# Altium footprint library piRack1.PcbLib: 22 footprints (part 1 of 2)
Each footprint in its own frame and in the unit in brackets; x right, y up, seen from the top. Pads: shape width x height; smd on the part's side, far side on the other; paste and mask are expansions set on the pad; w line width, h text height; cw(c..) or ccw(c..) is an arc to the next point about the centre after c.
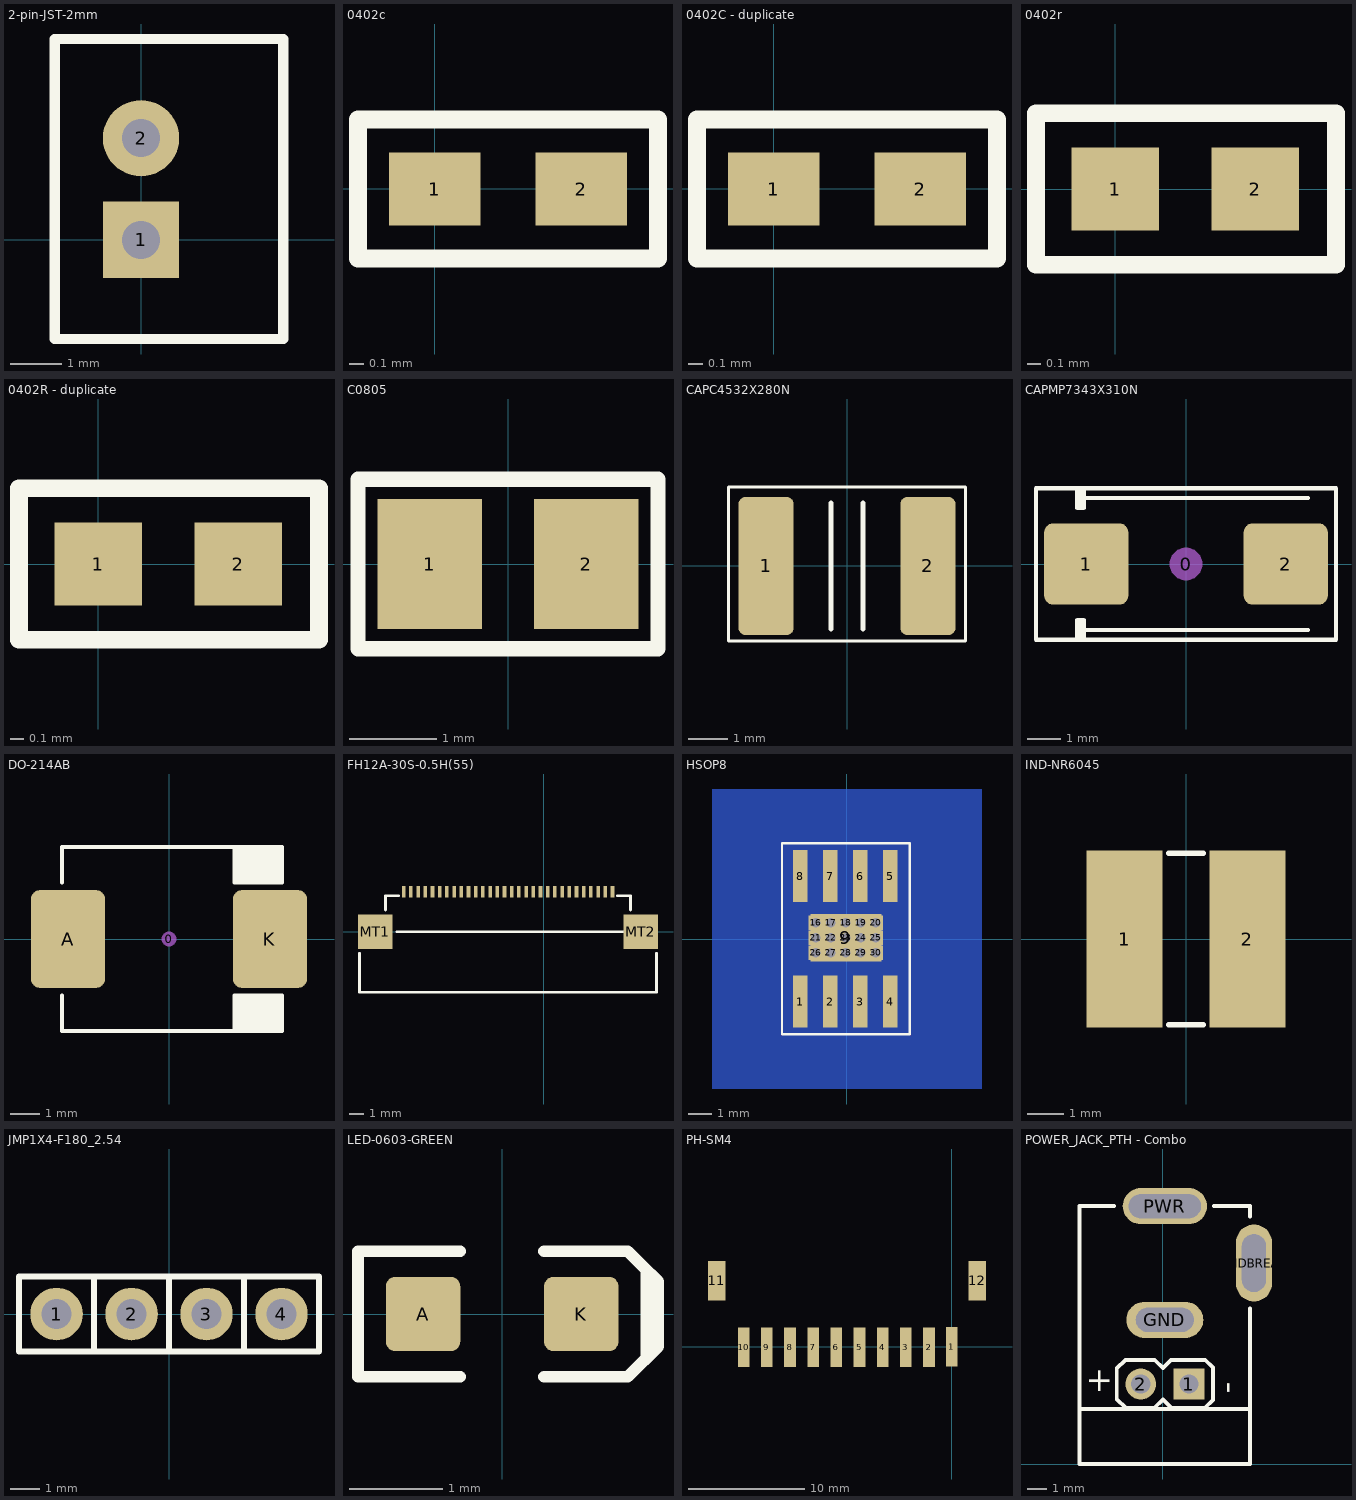
[diagram p0: the footprints below, top view; thin cyan lines are the x and y axes]

## 2-pin-JST-2mm [mm]
height 1.1
pads (2):
  rect 1.5x1.5 hole 0.75: 1(0,0)
  round 1.5 hole 0.75: 2(0,2)
Top Overlay:
  lines w0.203: -1.7,-1.95 2.8,-1.95 2.8,3.95 -1.7,3.95 -1.7,-1.95
3D body: height 6, standoff -3.4, extent -1.7,-1.95 2.8,3.95

## 0402c [mil]
pads (2):
  rect 25x20 smd: 1(0,0) 2(40,0)
Top Overlay:
  lines w5: -21,-19 -21,19 61,19 61,-19 -21,-19
3D body: height 13.98, standoff 0, extent -0.98,-10.43 38.39,10.43

## 0402C - duplicate [mil]
pads (2):
  rect 25x20 smd: 1(0,0) 2(40,0)
Top Overlay:
  lines w5: -21,-19 61,-19 61,19 -21,19 -21,-19
3D body: height 13.98, standoff 0, extent -0.98,-10.43 38.39,10.43

## 0402r [mm]
height 1.1
pads (2):
  rect 0.635x0.6 smd: 1(0,0) 2(1.016,0)
Top Overlay:
  lines w0.127: -0.575,-0.55 1.6,-0.55 1.6,0.55 -0.575,0.55 -0.575,-0.55
3D body: height 0.34, standoff 0, extent -0.02,-0.3 1.02,0.3

## 0402R - duplicate [mm]
pads (2):
  rect 0.635x0.6 smd: 1(0,0) 2(1.016,0)
Top Overlay:
  lines w0.127: -0.575,-0.55 1.6,-0.55 1.6,0.55 -0.575,0.55 -0.575,-0.55
3D body: height 0.34, standoff 0, extent -0.02,-0.3 1.02,0.3

## C0805 [mm]
pads (2):
  rect 1.2x1.5 smd: 1(-0.9,0) 2(0.9,0)
Top Overlay:
  lines w0.178: -1.725,-0.975 1.725,-0.975 1.725,0.975 -1.725,0.975 -1.725,-0.975
3D body: height 1.25, standoff 0, extent 0.7,-0.625 1.05,0.625
3D body: height 1.25, standoff 0, extent -1.05,-0.625 -0.7,0.625
3D body: height 1.25, standoff 0, extent -0.7,-0.625 0.7,0.625

## CAPC4532X280N [mm] "Chip Capacitor, Body 4.5x3.2mm, 1812, IPC Medium Density"
height 2.8
pads (2):
  rrect25% 1.4x3.5 smd: 1(-2.05,0) 2(2.05,0)
Top Overlay:
  lines w0.076: -3,-1.9 -3,2 3,2 3,-1.9 -3,-1.9
  lines w0.127: -0.4,-1.6 -0.4,1.6 ; 0.4,-1.6 0.4,1.6
3D body: height 2.79, standoff -0.01, extent -2.45,-1.8 2.45,1.8

## CAPMP7343X310N [mm] "Molded body capacitor, Body 7.3x4.3mm, 2917, IPC Nominal settings"
height 3.1
pads (3):
  round 1 on Mech15: 0(0,0)
  rrect20% 2.55x2.45 smd: 1(-3.025,0) 2(3.025,0)
Top Overlay:
  lines w0.127: -3.3,-2 3.7,-2 ; -3.3,2 3.7,2 ; -3.2,-2.3 -3.2,-2 -3.2,-1.7 ; -3.2,1.7 -3.2,2 -3.2,2.3 ; -4.55,-2.3 -4.55,2.3 4.55,2.3 4.55,-2.3 -4.55,-2.3 ; -3.3,-2.3 -3.3,-1.7 -3.1,-1.7 -3.1,-2 -3.1,-2.3 -3.3,-2.3 ; -3.3,1.7 -3.3,2.3 -3.1,2.3 -3.1,2 -3.1,1.7 -3.3,1.7
3D body: height 3.1, standoff 0, extent -3.8,-1.975 3.8,1.975

## DO-214AB [mm] "JEDEC DO214 variation AB. SMC"
height 2.5
pads (3):
  round 0.508 on Mech15: 0(0,0)
  rrect25% 2.5x3.3 smd: A(-3.4,0) K(3.4,0)
Top Overlay:
  rectangle: 2.2,1.9 3.8,3.1
  rectangle: 2.2,-3.1 3.8,-1.9
  lines w0.127: -3.6,-1.9 -3.6,-3.1 3.8,-3.1 3.8,-1.9 2.2,-1.9 2.2,-3.1 ; -3.6,1.9 -3.6,3.1 3.8,3.1 3.8,1.9 2.2,1.9 2.2,3.1
3D body: height 2.62, standoff 0.01, extent -3.975,-2.975 4.05,2.975

## FH12A-30S-0.5H(55) [mm]
pads (32):
  rect 0.25x0.8 smd: 1(4.772,2.787) 2(4.272,2.787) 3(3.772,2.787) 4(3.272,2.787) 5(2.772,2.787) 6(2.272,2.787) 7(1.772,2.787) 8(1.272,2.787) 9(0.772,2.787) 10(0.272,2.787) 11(-0.228,2.787) 12(-0.728,2.787) 13(-1.228,2.787) 14(-1.728,2.787) 15(-2.228,2.787) 16(-2.728,2.787) 17(-3.228,2.787) 18(-3.728,2.787) 19(-4.228,2.787) 20(-4.728,2.787) 21(-5.228,2.787) 22(-5.728,2.787) 23(-6.228,2.787) 24(-6.728,2.787) 25(-7.228,2.787) 26(-7.728,2.787) 27(-8.228,2.787) 28(-8.728,2.787) 29(-9.228,2.787) 30(-9.728,2.787)
  rect 2.4x2.4 smd: MT1(-11.7,0) MT2(6.731,0)
Top Overlay:
  lines w0.2: -12.8,-1.5 -12.8,-4.2 7.798,-4.2 ; -11,1.5 -11,2.5 -10.1,2.5 ; -10.2,0 5.791,0 ; 5.131,2.5 6.031,2.5 6.031,1.5 ; 7.831,-4.2 7.831,-1.5
3D body: height 2.05, standoff -0.1, extent -12.239,-4.104 7.261,2.896

## HSOP8 [mil]
pads (24):
  rect 24x87 smd: 1(-77.87,-104.33) 2(-27.87,-104.33) 3(22.13,-104.33) 4(72.13,-104.33) 5(72.13,104.97) 6(22.13,104.97) 7(-27.87,104.97) 8(-77.87,104.97)
  rect 118.11x78.74 smd: 9(-1.97,1.97)
  rect 24x24 hole 16: 16(-52.07,27.06) 17(-27.07,27.06) 18(-2.07,27.06) 19(22.93,27.06) 20(47.93,27.06) 21(-52.07,2.06) 22(-27.07,2.06) 23(-2.07,2.06) 24(22.93,2.06) 25(47.93,2.06) 26(-52.07,-22.94) 27(-27.07,-22.94) 28(-2.07,-22.94) 29(22.93,-22.94) 30(47.93,-22.94)
Bottom Layer:
  rectangle: -225,-249.99 225,250.01
Top Overlay:
  lines w3.94: -108.27,-158.46 -108.27,159.45 104.33,159.45 104.33,-158.46 -108.27,-158.46
3D body: height 68.9, standoff 0, extent -100.39,-120.08 96.46,124.02

## IND-NR6045 [mm] "SMT power inductor 5 x 5mm"
height 2
pads (2):
  rect 2.1x4.9 smd: 1(-1.7,0) 2(1.7,0)
Top Overlay:
  lines w0.152: -0.475,-2.375 0.475,-2.375 ; -0.475,2.375 0.475,2.375
3D body: height 2, standoff 0, extent -2.5,-2.5 2.5,2.5
3D body: height 0.25, standoff 0, extent 1.8,-1.575 2.65,1.575
3D body: height 0.25, standoff 0, extent -2.65,-1.575 -1.775,1.575

## JMP1X4-F180_2.54 [mil]
height 169.29
pads (4):
  round 70 hole 40: 1(-150,0) 2(-50,0) 3(50,0) 4(150,0)
Top Overlay:
  lines w8: -100,-50 -100,50 ; 0,-50 0,50 ; 100,-50 100,50 ; -200,-50 -200,50 200,50 200,-50 -200,-50
3D body: height 169.29, standoff 0, extent -204,-54 204,54

## LED-0603-GREEN [mm]
height 0.8
pads (2):
  rrect25% 0.8x0.8 smd: A(-0.85,0) K(0.85,0)
Top Overlay:
  lines w0.076: -1.55,-0.675 -1.55,0.675
  lines w0.127: -0.45,-0.675 -1.55,-0.675 -1.55,0.675 -0.45,0.675 ; 0.45,-0.675 1.35,-0.675 1.55,-0.475 1.55,0.475 1.35,0.675 0.45,0.675 ; 1.5,0.525 1.675,0.35 1.675,-0.35 1.525,-0.5

## PH-SM4 [mm]
height 1.1
pads (12):
  rect 1x3.4 smd: 1(0,0) 2(-1.97,-0.016) 3(-3.97,-0.016) 4(-5.97,-0.016) 5(-7.97,-0.016) 6(-9.97,-0.016) 7(-11.97,-0.016) 8(-13.97,-0.016) 9(-15.97,-0.016) 10(-17.97,-0.016)
  rect 1.5x3.4 smd: 11(-20.3,5.7) 12(2.2,5.7)
3D body: height 5.6, standoff 0, extent -21,-1.2 2.9,7.4

## POWER_JACK_PTH - Combo [mil] "Power jack and Connector Combined"
height 590.55
pads (5):
  rect 64x64 hole 40: 1(54,167)
  round 64 hole 40: 2(-46,167)
  oval 160x75 hole 50 slot 120 at 0 deg: GND(4,300.15)
  oval 75x160 hole 50 slot 120 at 90 deg: GNDBREAK(189.04,418.26)
  oval 175x75 hole 50 slot 150 at 0 deg: PWR(4,536.37)
Top Overlay:
  lines w8: -101.37,536.37 -173.17,536.37 -173.17,115.11 ; 106.37,536.37 181.16,536.37 181.16,515 ; 181.16,323.77 181.16,115.11 ; -173.17,115.11 -173.17,0.94 181.16,0.94 181.16,115.11 ; -173.17,115.11 181.16,115.11 ; -96,136 -77,117 -18,117 0,135 18,117 87,117 104,134 104,201 88,217 17,217 0,200 -17,217 -78,217 -96,199 -96,136
  text "+" at -110,145 h50
  text "-" at 154,147 h50
3D body: height 433.07, standoff -137.8, extent -177.01,-25 197.01,555.71